# EAGLE library part DS3231M+TRL (library TimePassThrough)
±5ppm, I2C Real-Time Clock
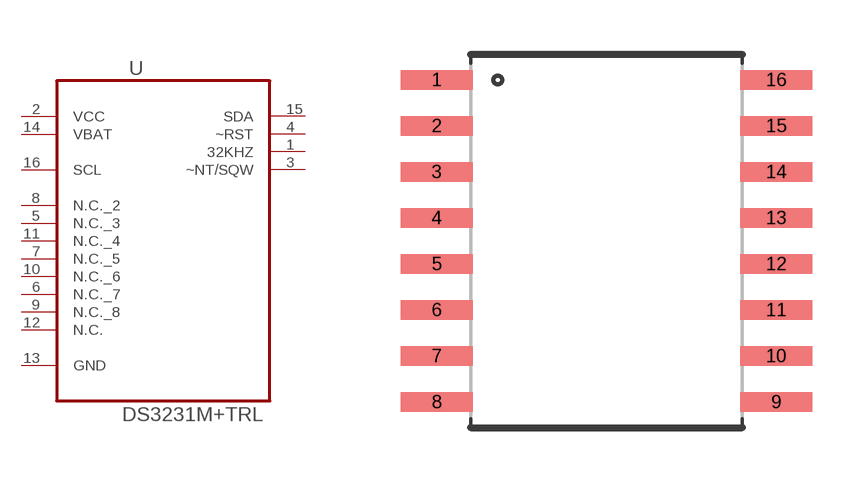
[diagram p2: symbol with the pads of W16MK+1; footprint W16MK+1]

Designator prefix U

## DS3231M+TRL (MPN: DS3231M+TRL; OC_FARNELL: -; OC_NEWARK: 79R7966; PACKAGE: SOIC-16; SUPPLIER: Maxim)  [W16MK+1]
1  32KHZ  out
2  VCC  pwr
3  ~NT/SQW  out
4  ~RST
5  N.C._3  nc
6  N.C._7  nc
7  N.C._5  nc
8  N.C._2  nc
9  N.C._8  nc
10  N.C._6  nc
11  N.C._4  nc
12  N.C.  nc
13  GND  pas
14  VBAT  pwr
15  SDA
16  SCL  in

## Footprint W16MK+1 (pad centres in mm)
Package Land Pattern, [W16] 0.300' SOIC, 16 Leads
smd 1.98 x 0.53: 1 -4.685,4.445; 2 -4.685,3.175; 3 -4.685,1.905; 4 -4.685,0.635; 5 -4.685,-0.635; 6 -4.685,-1.905; 7 -4.685,-3.175; 8 -4.685,-4.445; 9 4.685,-4.445; 10 4.685,-3.175; 11 4.685,-1.905; 12 4.685,-0.635; 13 4.685,0.635; 14 4.685,1.905; 15 4.685,3.175; 16 4.685,4.445